# EAGLE library part ADG5433 (library Eagle_CAD_parts)
IC SWITCH THREE SPDT 14Ohm
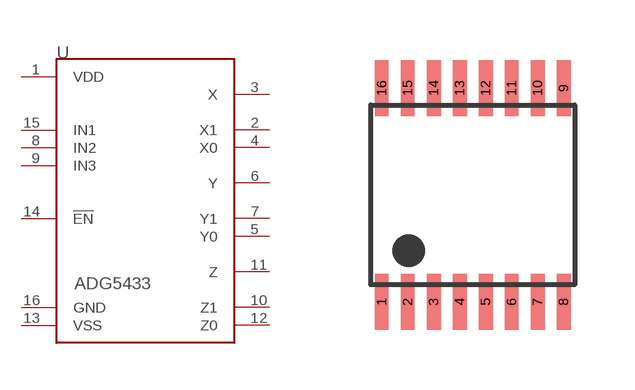
[diagram p71: symbol with the pads of 16-TSSOP_RU-16; footprint 16-TSSOP_RU-16]

Designator prefix U

## ADG5433 (DIGIKEY_PART_NUMBER: ADG5433BRUZ-REEL7CT-ND; MANUFACTURER_PART_NUMBER: ADG5433BRUZ-REEL7)  [16-TSSOP_RU-16]
1  VDD
2  X1
3  X
4  X0
5  Y0
6  Y
7  Y1
8  IN2
9  IN3
10  Z1
11  Z
12  Z0
13  VSS
14  !EN
15  IN1
16  GND

## Footprint 16-TSSOP_RU-16 (pad centres in mm)
smd 0.35 x 1.4: 1 -2.275,-2.675; 2 -1.625,-2.675; 3 -0.975,-2.675; 4 -0.325,-2.675; 5 0.325,-2.675; 6 0.975,-2.675; 7 1.625,-2.675; 8 2.275,-2.675; 9 2.275,2.675; 10 1.625,2.675; 11 0.975,2.675; 12 0.325,2.675; 13 -0.325,2.675; 14 -0.975,2.675; 15 -1.625,2.675; 16 -2.275,2.675